# Altium schematic symbol library Toko.SchLib: 1 symbol
Pins are listed as number, name and electrical type; pins without a type are passive.

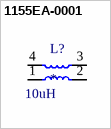
[diagram p0: symbol 1155EA-0001]

## 1155EA-0001
designator L?  value 10uH
Fixed Inductor for automative digital amplifier; Producer: Toko; Name: Toko HEAW
footprint 1155EA-0001 (Fixed Inductors for automotive digital amplifier)
pins: 1, 2, 3, 4